# Altium schematic symbol library INA238.SchLib: 1 symbol
Pins are listed as number, name and electrical type; pins without a type are passive.

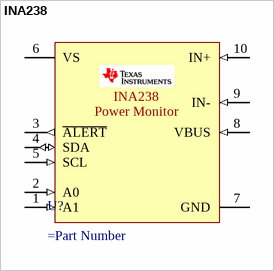
[diagram p0: symbol INA238]

## INA238
designator U?
=Description
pins: 1 A1 (in), 2 A0 (in), 3 ~{ALERT} (out), 4 SDA (io), 5 SCL (in), 6 VS (power), 7 GND (power), 8 VBUS (in), 9 IN- (in), 10 IN+ (in)
text: INA238 / Power Monitor